# Altium footprint library resistor 5w.PcbLib: 1 footprints
Each footprint in its own frame and in the unit in brackets; x right, y up, seen from the top. Pads: shape width x height; smd on the part's side, far side on the other; paste and mask are expansions set on the pad; w line width, h text height; cw(c..) or ccw(c..) is an arc to the next point about the centre after c.
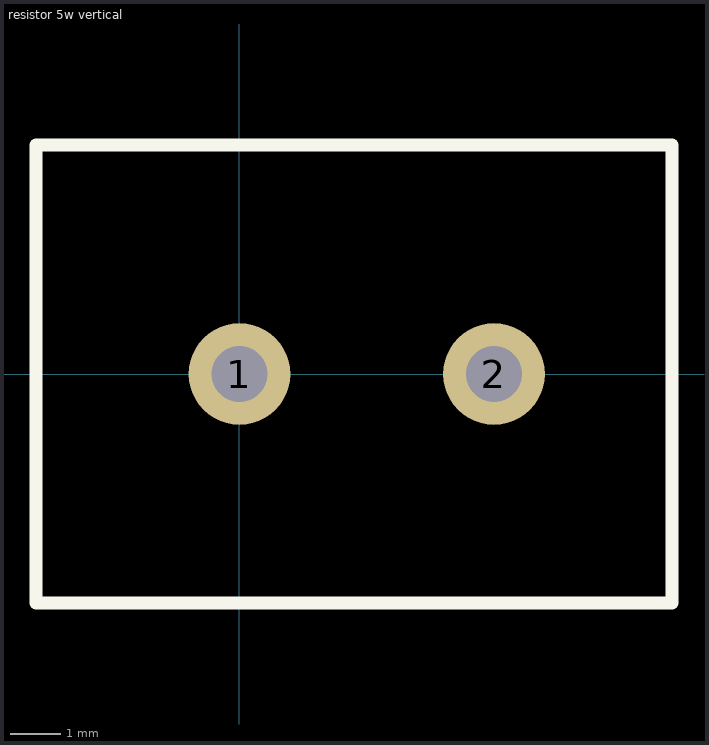
[diagram p0: the footprint, top view; thin cyan lines are the x and y axes]

## resistor 5w vertical [mm]
pads (2):
  round 2 hole 1.1: 1(0,0) 2(5,0)
Top Overlay:
  lines w0.254: -4,-4.5 8.5,-4.5 8.5,4.5 -4,4.5 -4,-4.5
3D body: height 25, standoff 0.5, extent -4,-4.5 8.5,4.5